# Altium schematic symbol library HW_ADHERENT_NFC_R1_L3.SchLib: 1628 symbols (part 11 of 31)
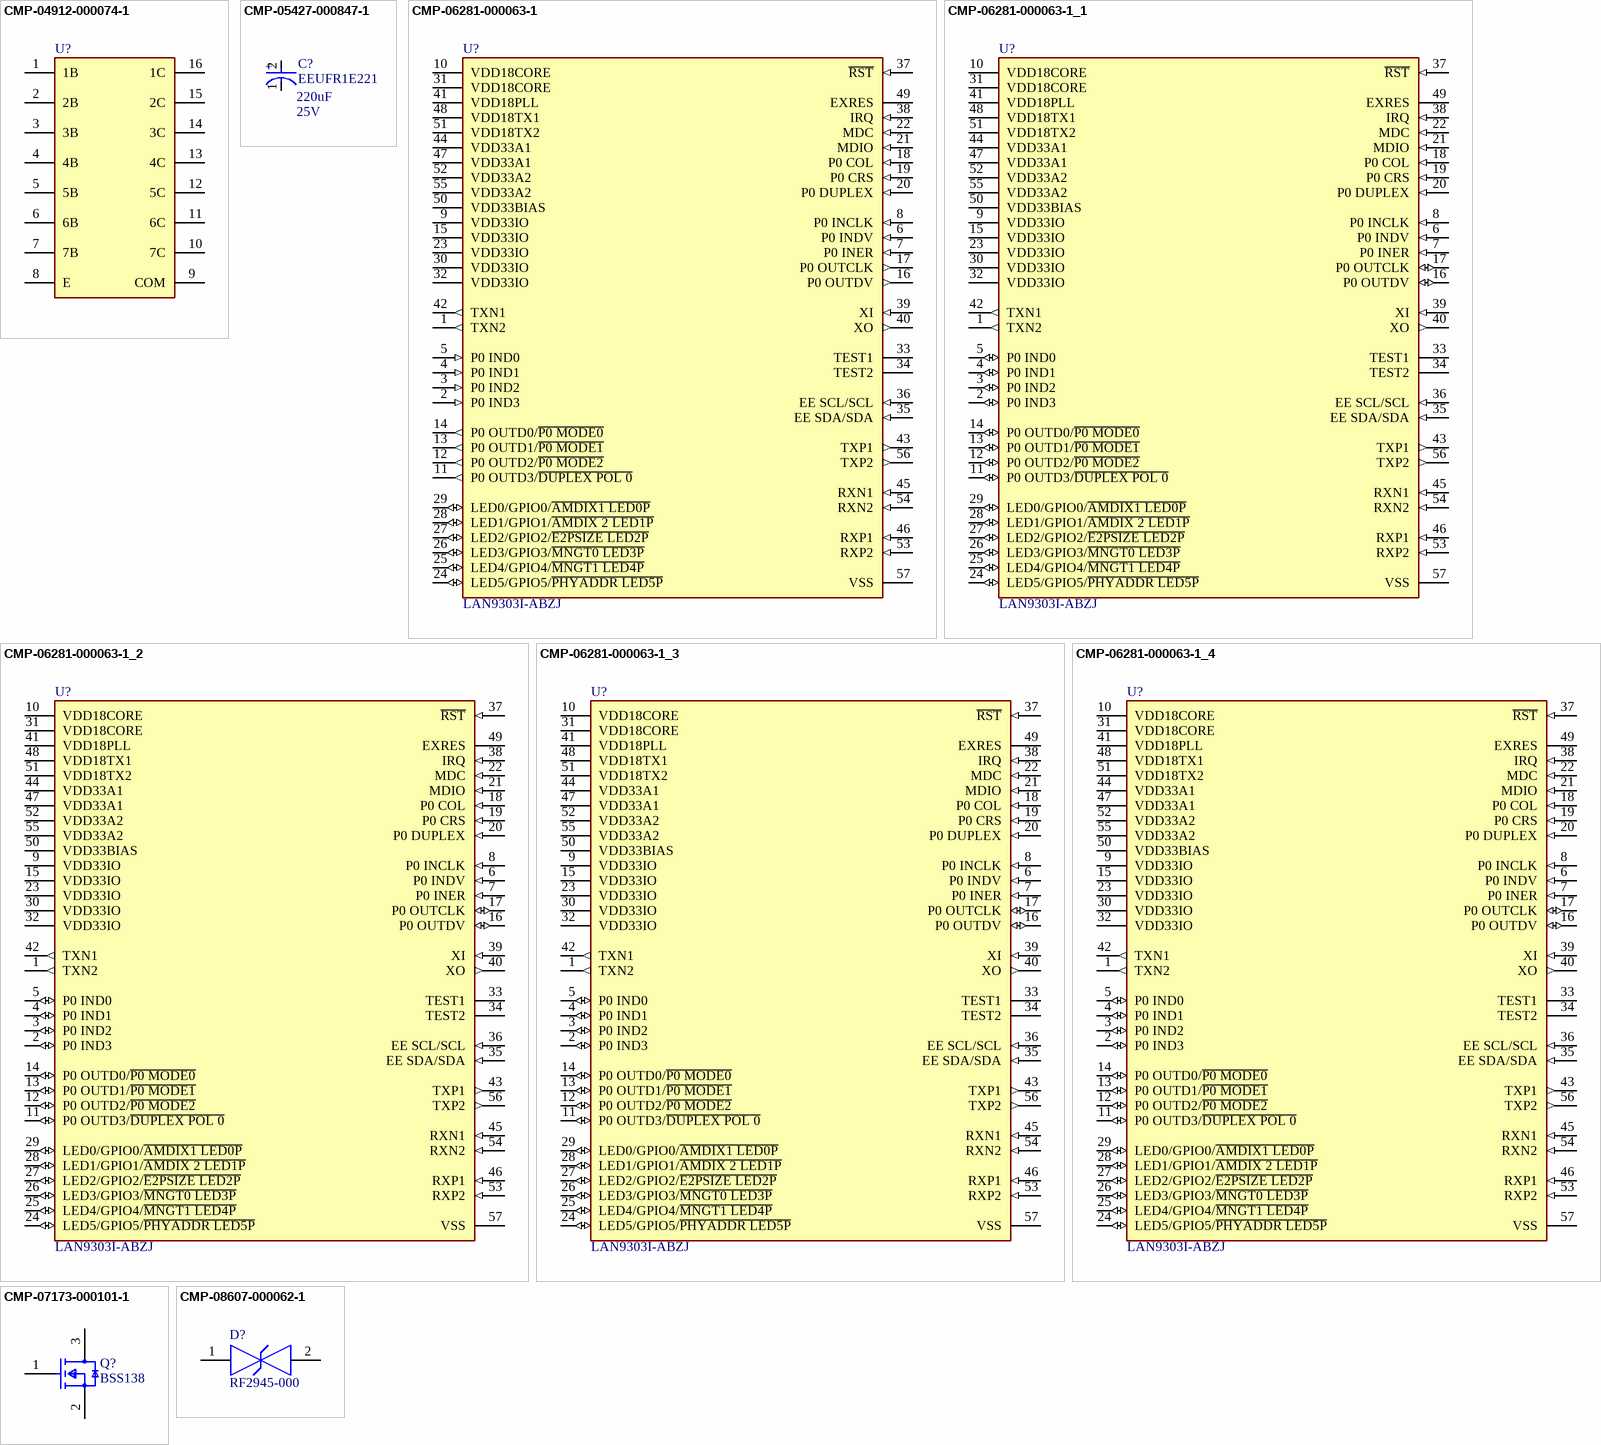
[diagram p60: symbols CMP-04912-000074-1 to CMP-08607-000062-1]

## CMP-06281-000063-1_3
designator U?, comment LAN9303I-ABZJ
IC ETHER SW 3PORT 16BIT 56QFN; Min Supply Voltage: 3V; Data Rate: 100Mbps; Max Supply Current: 190mA; Number of Ports: 3; Max Supply Voltage: 3.6V; Number of Transceivers: 1; Operating Supply Voltage: 3.3V; Interface: I2C; Min Operating Temperature: -40°C; Series: -; Mount: Surface Mount; Radiation Hardening: No; Package Quantity: 260; Lead Free: Lead Free; Number of Pins: 56; Packaging: Tray; Case/Package: QFN; Height: 0.9mm; RoHS Compliant: Yes; Operating Supply Current: 190mA; Width: 7.95mm; Max Operating Temperature: 85°C; Length: 7.95mm
footprint QFN50P800X800X100-57N
pins: 1 TXN2 (out), 2 P0 IND3 (io), 3 P0 IND2 (io), 4 P0 IND1 (io), 5 P0 IND0 (io), 6 P0 INDV (in), 7 P0 INER (in), 8 P0 INCLK (in), 9 VDD33IO (power), 10 VDD18CORE (power), 11 P0 OUTD3/~{DUPLEX POL 0} (io), 12 P0 OUTD2/~{P0 MODE2} (io), 13 P0 OUTD1/~{P0 MODE1} (io), 14 P0 OUTD0/~{P0 MODE0} (io), 15 VDD33IO (power), 16 P0 OUTDV (io), 17 P0 OUTCLK (io), 18 P0 COL (in), 19 P0 CRS (in), 20 P0 DUPLEX (in), 21 MDIO (in), 22 MDC (in), 23 VDD33IO (power), 24 LED5/GPIO5/~{PHYADDR LED5P} (io), 25 LED4/GPIO4/~{MNGT1 LED4P} (io), 26 LED3/GPIO3/~{MNGT0 LED3P} (io), 27 LED2/GPIO2/~{E2PSIZE LED2P} (io), 28 LED1/GPIO1/~{AMDIX 2 LED1P} (io), 29 LED0/GPIO0/~{AMDIX1 LED0P} (io), 30 VDD33IO (power), 31 VDD18CORE (power), 32 VDD33IO (power), 33 TEST1, 34 TEST2, 35 EE SDA/SDA (in), 36 EE SCL/SCL (in), 37 ~{RST} (in), 38 IRQ (in), 39 XI (in), 40 XO (out), 41 VDD18PLL (power), 42 TXN1 (out), 43 TXP1 (out), 44 VDD33A1 (power), 45 RXN1 (in), 46 RXP1 (in), 47 VDD33A1 (power), 48 VDD18TX1 (power), 49 EXRES (power), 50 VDD33BIAS (power), 51 VDD18TX2 (power), 52 VDD33A2 (power), 53 RXP2 (in), 54 RXN2 (in), 55 VDD33A2 (power), 56 TXP2 (out), 57 VSS (power)

## CMP-06281-000063-1_4
designator U?, comment LAN9303I-ABZJ
IC ETHER SW 3PORT 16BIT 56QFN; Min Supply Voltage: 3V; Data Rate: 100Mbps; Max Supply Current: 190mA; Number of Ports: 3; Max Supply Voltage: 3.6V; Number of Transceivers: 1; Operating Supply Voltage: 3.3V; Interface: I2C; Min Operating Temperature: -40°C; Series: -; Mount: Surface Mount; Radiation Hardening: No; Package Quantity: 260; Lead Free: Lead Free; Number of Pins: 56; Packaging: Tray; Case/Package: QFN; Height: 0.9mm; RoHS Compliant: Yes; Operating Supply Current: 190mA; Width: 7.95mm; Max Operating Temperature: 85°C; Length: 7.95mm
footprint QFN50P800X800X100-57N
pins: 1 TXN2 (out), 2 P0 IND3 (io), 3 P0 IND2 (io), 4 P0 IND1 (io), 5 P0 IND0 (io), 6 P0 INDV (in), 7 P0 INER (in), 8 P0 INCLK (in), 9 VDD33IO (power), 10 VDD18CORE (power), 11 P0 OUTD3/~{DUPLEX POL 0} (io), 12 P0 OUTD2/~{P0 MODE2} (io), 13 P0 OUTD1/~{P0 MODE1} (io), 14 P0 OUTD0/~{P0 MODE0} (io), 15 VDD33IO (power), 16 P0 OUTDV (io), 17 P0 OUTCLK (io), 18 P0 COL (in), 19 P0 CRS (in), 20 P0 DUPLEX (in), 21 MDIO (in), 22 MDC (in), 23 VDD33IO (power), 24 LED5/GPIO5/~{PHYADDR LED5P} (io), 25 LED4/GPIO4/~{MNGT1 LED4P} (io), 26 LED3/GPIO3/~{MNGT0 LED3P} (io), 27 LED2/GPIO2/~{E2PSIZE LED2P} (io), 28 LED1/GPIO1/~{AMDIX 2 LED1P} (io), 29 LED0/GPIO0/~{AMDIX1 LED0P} (io), 30 VDD33IO (power), 31 VDD18CORE (power), 32 VDD33IO (power), 33 TEST1, 34 TEST2, 35 EE SDA/SDA (in), 36 EE SCL/SCL (in), 37 ~{RST} (in), 38 IRQ (in), 39 XI (in), 40 XO (out), 41 VDD18PLL (power), 42 TXN1 (out), 43 TXP1 (out), 44 VDD33A1 (power), 45 RXN1 (in), 46 RXP1 (in), 47 VDD33A1 (power), 48 VDD18TX1 (power), 49 EXRES (power), 50 VDD33BIAS (power), 51 VDD18TX2 (power), 52 VDD33A2 (power), 53 RXP2 (in), 54 RXN2 (in), 55 VDD33A2 (power), 56 TXP2 (out), 57 VSS (power)

## CMP-07173-000101-1
designator Q?, comment BSS138
MOSFET N-CH 50V 220MA SOT-23; Manufacturer: ON Semiconductor / Fairchild; Rds On Max: 3.5R; Max Power Dissipation: 360mW; Input Capacitance: 27pF; Turn-Off Delay Time: 20ns; Turn-On Delay Time: 2.5ns; Gate to Source Voltage (Vgs): 20V; Number of Elements: 1; Threshold Voltage: 1.3V; Rise Time: 9ns; Element Configuration: Single; On-State Resistance: 6R; Supplier 1: Digi-Key; Supplier Part Number 1: BSS138CT-ND; Manufacturer Part Number: BSS138; RoHS: Yes; Category: MOSFETs; Stock 1: 1079620; Pricing 1: 1=0,28000, 10=0,22800, 25=0,19120, 100=0,12100, 500=0,07962, 1000=0,05414 (USD); Mount: Surface Mount; Case/Package: SOT-23; Number of Pins: 3; Contact Plating: Tin,Matte; Weight: 0.03g; Min Operating Temperature: -55°C; Max Operating Temperature: 150°C; Packaging: Tape and Reel; Drain to Source Voltage (Vdss): 50V; Continuous Drain Current (ID): 220mA; Power Dissipation: 360mW; Package Quantity: 1; Drain to Source Breakdown Voltage: 50V; Drain to Source Resistance: 3.5R; Nominal Vgs: 1.3V; Fall Time: 9ns; Voltage Rating (DC): 50V; Current Rating: 220mA; Dual Supply Voltage: 50V; Termination: SMD/SMT; Length: 2.92mm; Width: 1.3mm; Height: 0.93mm; Radiation Hardening: No; REACH SVHC: No SVHC; Lead Free: Lead Free; ComponentLink1URL: https://datasheet.ciiva.com/1190/193736-1190130.pdf?src-supplier=Element14; ComponentLink1Description: https://datasheet.ciiva.com/1190/193736-1190130.pdf?src-supplier=Element14; ComponentLink2URL: https://datasheet.ciiva.com/931/bss138-931776.pdf?src-supplier=Digi-Key; ComponentLink2Description: https://datasheet.ciiva.com/931/bss138-931776.pdf?src-supplier=Digi-Key; ComponentLink3URL: https://datasheet.ciiva.com/22655/193736-22655240.pdf?src-supplier=Element14; ComponentLink3Description: https://datasheet.ciiva.com/22655/193736-22655240.pdf?src-supplier=Element14; ComponentLink4URL: https://datasheet.ciiva.com/1254/193736-1254983.pdf?src-supplier=Newark; ComponentLink4Description: https://datasheet.ciiva.com/1254/193736-1254983.pdf?src-supplier=Newark; ComponentLink5URL: https://datasheet.ciiva.com/27050/784896-27050043.pdf?src-supplier=Jameco; ComponentLink5Description: https://datasheet.ciiva.com/27050/784896-27050043.pdf?src-supplier=Jameco; ComponentLink6URL: https://datasheet.ciiva.com/1190/193736-1190131.pdf?src-supplier=Element14; ComponentLink6Description: https://datasheet.ciiva.com/1190/193736-1190131.pdf?src-supplier=Element14; ComponentLink7URL: https://datasheet.ciiva.com/3304/bss138-3304424.pdf?src-supplier=Avnet; ComponentLink7Description: https://datasheet.ciiva.com/3304/bss138-3304424.pdf?src-supplier=Avnet; ComponentLink8URL: https://datasheet.ciiva.com/16834/bss138-16834843.pdf?src-supplier=Future+Electronics; ComponentLink8Description: https://datasheet.ciiva.com/16834/bss138-16834843.pdf?src-supplier=Future+Electronics; ComponentLink9URL: https://datasheet.ciiva.com/26229/bss138-26229007.pdf?src-supplier=Avnet+Europe; ComponentLink9Description: https://datasheet.ciiva.com/26229/bss138-26229007.pdf?src-supplier=Avnet+Europe
footprint FP-318-08-IPC_B
footprint FP-318-08-MFG
footprint FP-318-08-IPC_A
footprint FP-318-08-IPC_C
pins: 1 G, 2 S, 3 D

## CMP-08607-000062-1
designator D?, comment RF2945-000
TVS DIODE 7V 10V 0402; Manufacturer: Littelfuse; Value: 0.1pF; Breakdown Voltage: 9.8V; Number Of Channels: 1; Peak Pulse Current: 2A; Direction: Bidirectional; Automotive Grade: Grade 1; Standoff Height: 0mm; Octopart: https://octopart.com/rf2945-000-littelfuse-56516902; Device Class L3: unset; ComponentLink2Description: Datasheet; Lead Free: Yes; Temperature Range Low: -55°C; Clamping Voltage: 10V; Digikey Description: TVS DIODE 7V 10V 0402; Category: Diode; Temperature: -55°C to +125°C; Device Class L1: Circuit Protection; Capacitance: 0.1pF; RoHS: TRUE; Device Class L2: TVS Diodes; Package: SESD0402; Reverse Standoff Voltage: 7V; Automotive: Yes; Height: 0.43mm; Manufacturer Part Number: RF2945-000; Temperature Range High: +125°C; ComponentLink2URL: https://www.littelfuse.com/~/media/electronics/datasheets/tvs_diode_arrays/littelfuse_tvs_diode_array_sesd_ultra_low_capacitance_discrete_tvs_datasheet.pdf.pdf
footprint FP-SESD0402-MFG
pins: 1, 2

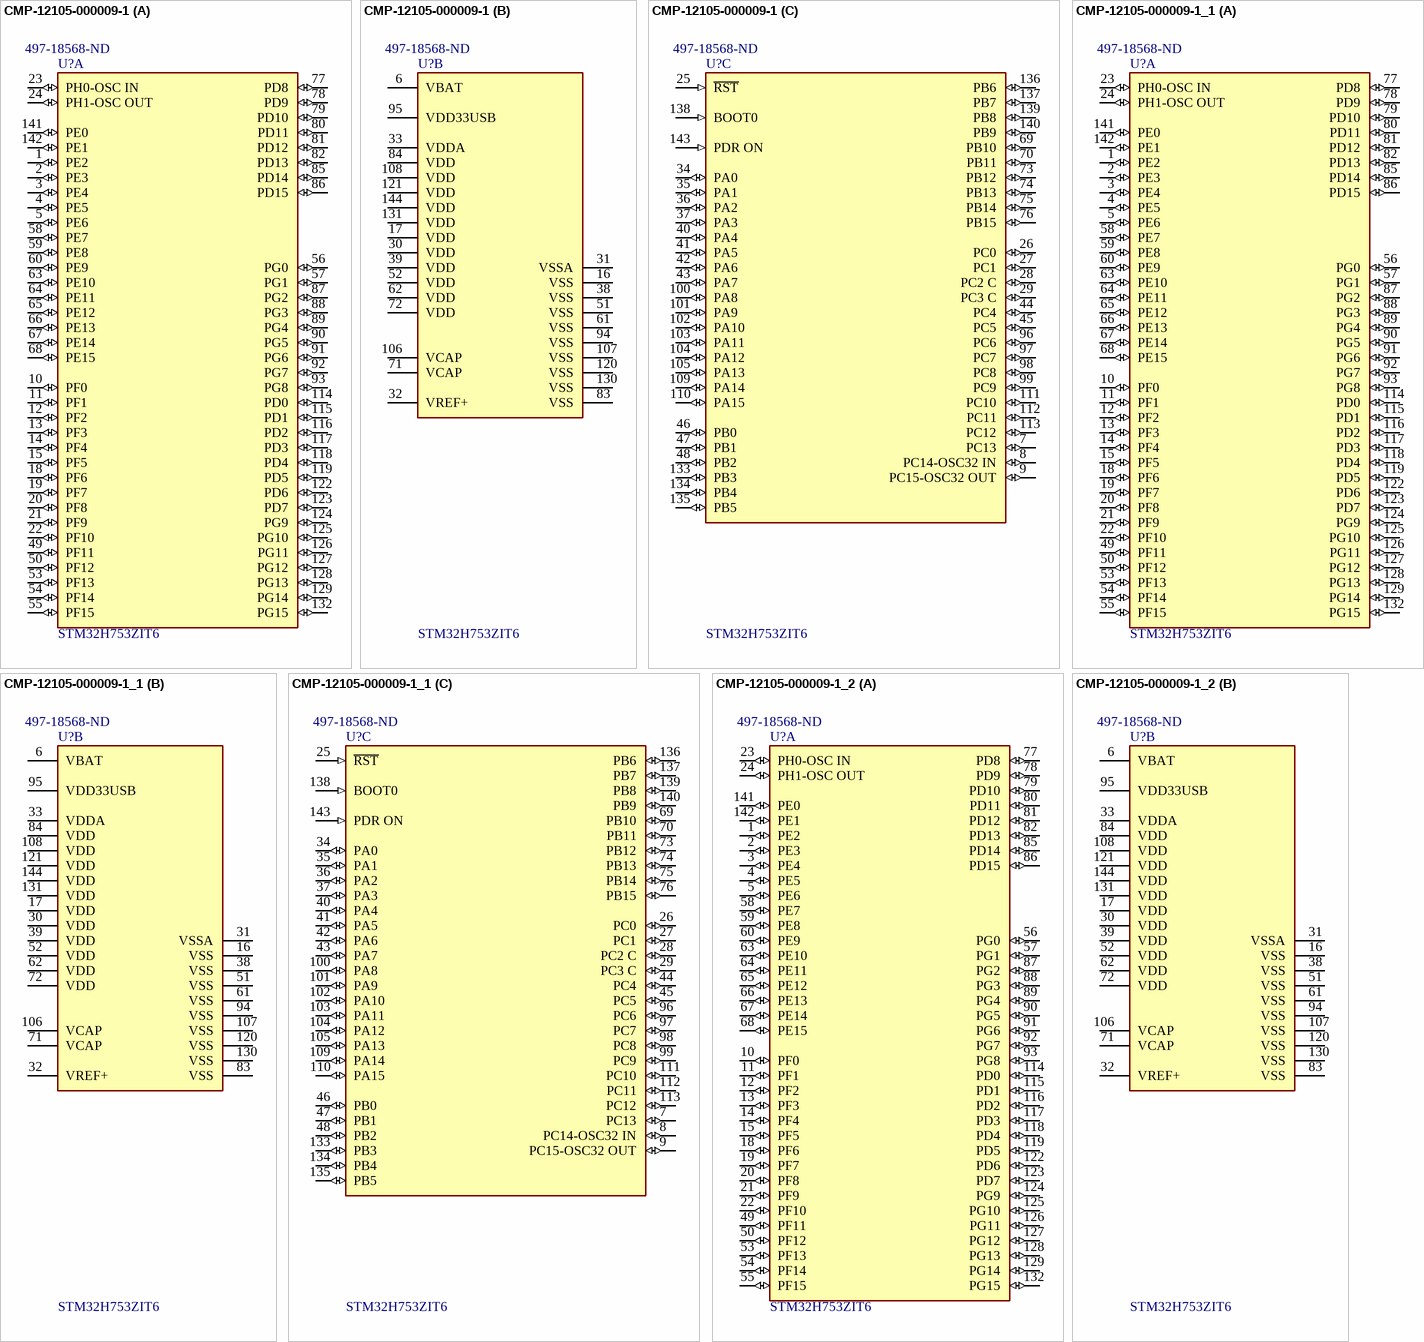
[diagram p15: symbols CMP-12105-000009-1 to CMP-12105-000009-1_2]

## CMP-12105-000009-1
designator U?, comment STM32H753ZIT6  Supplier Part Number 1: 497-18568-ND
LQFP 144 20X20X1.4 2; Manufacturer: STMicroelectronics; ComponentLink2URL: https://www.st.com/resource/en/datasheet/stm32h753zi.pdf; ComponentLink2Description: Datasheet; ComponentLink1URL: http://www.farnell.com/datasheets/2602777.pdf?src-supplier=Farnell; ComponentLink1Description: http://www.farnell.com/datasheets/2602777.pdf?src-supplier=Farnell; ComponentLink3URL: http://www.farnell.com/datasheets/2602777.pdf?src-supplier=Newark; ComponentLink3Description: http://www.farnell.com/datasheets/2602777.pdf?src-supplier=Newark; ComponentLink4URL: http://www.farnell.com/datasheets/2602777.pdf?src-supplier=Element14; ComponentLink4Description: http://www.farnell.com/datasheets/2602777.pdf?src-supplier=Element14; ComponentLink5URL: http://www.st.com/content/ccc/resource/technical/document/datasheet/group3/01/21/00/39/12/c9/4c/f1/DM00388325/files/DM00388325.pdf/jcr:content/translations/en.DM00388325.pdf?src-supplier=Digi-Key; ComponentLink5Description: http://www.st.com/content/ccc/resource/technical/document/datasheet/group3/01/21/00/39/12/c9/4c/f1/DM00388325/files/DM00388325.pdf/jcr:content/translations/en.DM00388325.pdf?src-supplier=Digi-Key; Supplier 1: Digi-Key; Manufacturer Part Number: STM32H753ZIT6; RoHS: Yes; Category: Microcontrollers; Pricing 1: 1=18.38000, 10=16.88900, 25=16.18840, 120=14.58417 (USD); RoHS Compliant: Yes
footprint FP-LQFP144-1A-MFG
footprint FP-LQFP144-1A-IPC_C
footprint FP-LQFP144-1A-IPC_B
footprint FP-LQFP144-1A-IPC_A
part A pins: 1 PE2 (io), 2 PE3 (io), 3 PE4 (io), 4 PE5 (io), 5 PE6 (io), 10 PF0 (io), 11 PF1 (io), 12 PF2 (io), 13 PF3 (io), 14 PF4 (io), 15 PF5 (io), 18 PF6 (io), 19 PF7 (io), 20 PF8 (io), 21 PF9 (io), 22 PF10 (io), 23 PH0-OSC IN (io), 24 PH1-OSC OUT (io), 49 PF11 (io), 50 PF12 (io), 53 PF13 (io), 54 PF14 (io), 55 PF15 (io), 56 PG0 (io), 57 PG1 (io), 58 PE7 (io), 59 PE8 (io), 60 PE9 (io), 63 PE10 (io), 64 PE11 (io), 65 PE12 (io), 66 PE13 (io), 67 PE14 (io), 68 PE15 (io), 77 PD8 (io), 78 PD9 (io), 79 PD10 (io), 80 PD11 (io), 81 PD12 (io), 82 PD13 (io), 85 PD14 (io), 86 PD15 (io), 87 PG2 (io), 88 PG3 (io), 89 PG4 (io), 90 PG5 (io), 91 PG6 (io), 92 PG7 (io), 93 PG8 (io), 114 PD0 (io), 115 PD1 (io), 116 PD2 (io), 117 PD3 (io), 118 PD4 (io), 119 PD5 (io), 122 PD6 (io), 123 PD7 (io), 124 PG9 (io), 125 PG10 (io), 126 PG11 (io), 127 PG12 (io), 128 PG13 (io), 129 PG14 (io), 132 PG15 (io), 141 PE0 (io), 142 PE1 (io)
part B pins: 6 VBAT (power), 16 VSS (power), 17 VDD (power), 30 VDD (power), 31 VSSA (power), 32 VREF+ (power), 33 VDDA (power), 38 VSS (power), 39 VDD (power), 51 VSS (power), 52 VDD (power), 61 VSS (power), 62 VDD (power), 71 VCAP (power), 72 VDD (power), 83 VSS (power), 84 VDD (power), 94 VSS (power), 95 VDD33USB (power), 106 VCAP (power), 107 VSS (power), 108 VDD (power), 120 VSS (power), 121 VDD (power), 130 VSS (power), 131 VDD (power), 144 VDD (power)
part C pins: 7 PC13 (io), 8 PC14-OSC32 IN (io), 9 PC15-OSC32 OUT (io), 25 ~{RST} (in), 26 PC0 (io), 27 PC1 (io), 28 PC2 C (io), 29 PC3 C (io), 34 PA0 (io), 35 PA1 (io), 36 PA2 (io), 37 PA3 (io), 40 PA4 (io), 41 PA5 (io), 42 PA6 (io), 43 PA7 (io), 44 PC4 (io), 45 PC5 (io), 46 PB0 (io), 47 PB1 (io), 48 PB2 (io), 69 PB10 (io), 70 PB11 (io), 73 PB12 (io), 74 PB13 (io), 75 PB14 (io), 76 PB15 (io), 96 PC6 (io), 97 PC7 (io), 98 PC8 (io), 99 PC9 (io), 100 PA8 (io), 101 PA9 (io), 102 PA10 (io), 103 PA11 (io), 104 PA12 (io), 105 PA13 (io), 109 PA14 (io), 110 PA15 (io), 111 PC10 (io), 112 PC11 (io), 113 PC12 (io), 133 PB3 (io), 134 PB4 (io), 135 PB5 (io), 136 PB6 (io), 137 PB7 (io), 138 BOOT0 (in), 139 PB8 (io), 140 PB9 (io), 143 PDR ON (in)

## CMP-12105-000009-1_1
designator U?, comment STM32H753ZIT6  Supplier Part Number 1: 497-18568-ND
LQFP 144 20X20X1.4 2; Manufacturer: STMicroelectronics; ComponentLink2URL: https://www.st.com/resource/en/datasheet/stm32h753zi.pdf; ComponentLink2Description: Datasheet; ComponentLink1URL: http://www.farnell.com/datasheets/2602777.pdf?src-supplier=Farnell; ComponentLink1Description: http://www.farnell.com/datasheets/2602777.pdf?src-supplier=Farnell; ComponentLink3URL: http://www.farnell.com/datasheets/2602777.pdf?src-supplier=Newark; ComponentLink3Description: http://www.farnell.com/datasheets/2602777.pdf?src-supplier=Newark; ComponentLink4URL: http://www.farnell.com/datasheets/2602777.pdf?src-supplier=Element14; ComponentLink4Description: http://www.farnell.com/datasheets/2602777.pdf?src-supplier=Element14; ComponentLink5URL: http://www.st.com/content/ccc/resource/technical/document/datasheet/group3/01/21/00/39/12/c9/4c/f1/DM00388325/files/DM00388325.pdf/jcr:content/translations/en.DM00388325.pdf?src-supplier=Digi-Key; ComponentLink5Description: http://www.st.com/content/ccc/resource/technical/document/datasheet/group3/01/21/00/39/12/c9/4c/f1/DM00388325/files/DM00388325.pdf/jcr:content/translations/en.DM00388325.pdf?src-supplier=Digi-Key; Supplier 1: Digi-Key; Manufacturer Part Number: STM32H753ZIT6; RoHS: Yes; Category: Microcontrollers; Pricing 1: 1=18.38000, 10=16.88900, 25=16.18840, 120=14.58417 (USD); RoHS Compliant: Yes
footprint FP-LQFP144-1A-MFG
footprint FP-LQFP144-1A-IPC_C
footprint FP-LQFP144-1A-IPC_B
footprint FP-LQFP144-1A-IPC_A
part A pins: 1 PE2 (io), 2 PE3 (io), 3 PE4 (io), 4 PE5 (io), 5 PE6 (io), 10 PF0 (io), 11 PF1 (io), 12 PF2 (io), 13 PF3 (io), 14 PF4 (io), 15 PF5 (io), 18 PF6 (io), 19 PF7 (io), 20 PF8 (io), 21 PF9 (io), 22 PF10 (io), 23 PH0-OSC IN (io), 24 PH1-OSC OUT (io), 49 PF11 (io), 50 PF12 (io), 53 PF13 (io), 54 PF14 (io), 55 PF15 (io), 56 PG0 (io), 57 PG1 (io), 58 PE7 (io), 59 PE8 (io), 60 PE9 (io), 63 PE10 (io), 64 PE11 (io), 65 PE12 (io), 66 PE13 (io), 67 PE14 (io), 68 PE15 (io), 77 PD8 (io), 78 PD9 (io), 79 PD10 (io), 80 PD11 (io), 81 PD12 (io), 82 PD13 (io), 85 PD14 (io), 86 PD15 (io), 87 PG2 (io), 88 PG3 (io), 89 PG4 (io), 90 PG5 (io), 91 PG6 (io), 92 PG7 (io), 93 PG8 (io), 114 PD0 (io), 115 PD1 (io), 116 PD2 (io), 117 PD3 (io), 118 PD4 (io), 119 PD5 (io), 122 PD6 (io), 123 PD7 (io), 124 PG9 (io), 125 PG10 (io), 126 PG11 (io), 127 PG12 (io), 128 PG13 (io), 129 PG14 (io), 132 PG15 (io), 141 PE0 (io), 142 PE1 (io)
part B pins: 6 VBAT (power), 16 VSS (power), 17 VDD (power), 30 VDD (power), 31 VSSA (power), 32 VREF+ (power), 33 VDDA (power), 38 VSS (power), 39 VDD (power), 51 VSS (power), 52 VDD (power), 61 VSS (power), 62 VDD (power), 71 VCAP (power), 72 VDD (power), 83 VSS (power), 84 VDD (power), 94 VSS (power), 95 VDD33USB (power), 106 VCAP (power), 107 VSS (power), 108 VDD (power), 120 VSS (power), 121 VDD (power), 130 VSS (power), 131 VDD (power), 144 VDD (power)
part C pins: 7 PC13 (io), 8 PC14-OSC32 IN (io), 9 PC15-OSC32 OUT (io), 25 ~{RST} (in), 26 PC0 (io), 27 PC1 (io), 28 PC2 C (io), 29 PC3 C (io), 34 PA0 (io), 35 PA1 (io), 36 PA2 (io), 37 PA3 (io), 40 PA4 (io), 41 PA5 (io), 42 PA6 (io), 43 PA7 (io), 44 PC4 (io), 45 PC5 (io), 46 PB0 (io), 47 PB1 (io), 48 PB2 (io), 69 PB10 (io), 70 PB11 (io), 73 PB12 (io), 74 PB13 (io), 75 PB14 (io), 76 PB15 (io), 96 PC6 (io), 97 PC7 (io), 98 PC8 (io), 99 PC9 (io), 100 PA8 (io), 101 PA9 (io), 102 PA10 (io), 103 PA11 (io), 104 PA12 (io), 105 PA13 (io), 109 PA14 (io), 110 PA15 (io), 111 PC10 (io), 112 PC11 (io), 113 PC12 (io), 133 PB3 (io), 134 PB4 (io), 135 PB5 (io), 136 PB6 (io), 137 PB7 (io), 138 BOOT0 (in), 139 PB8 (io), 140 PB9 (io), 143 PDR ON (in)

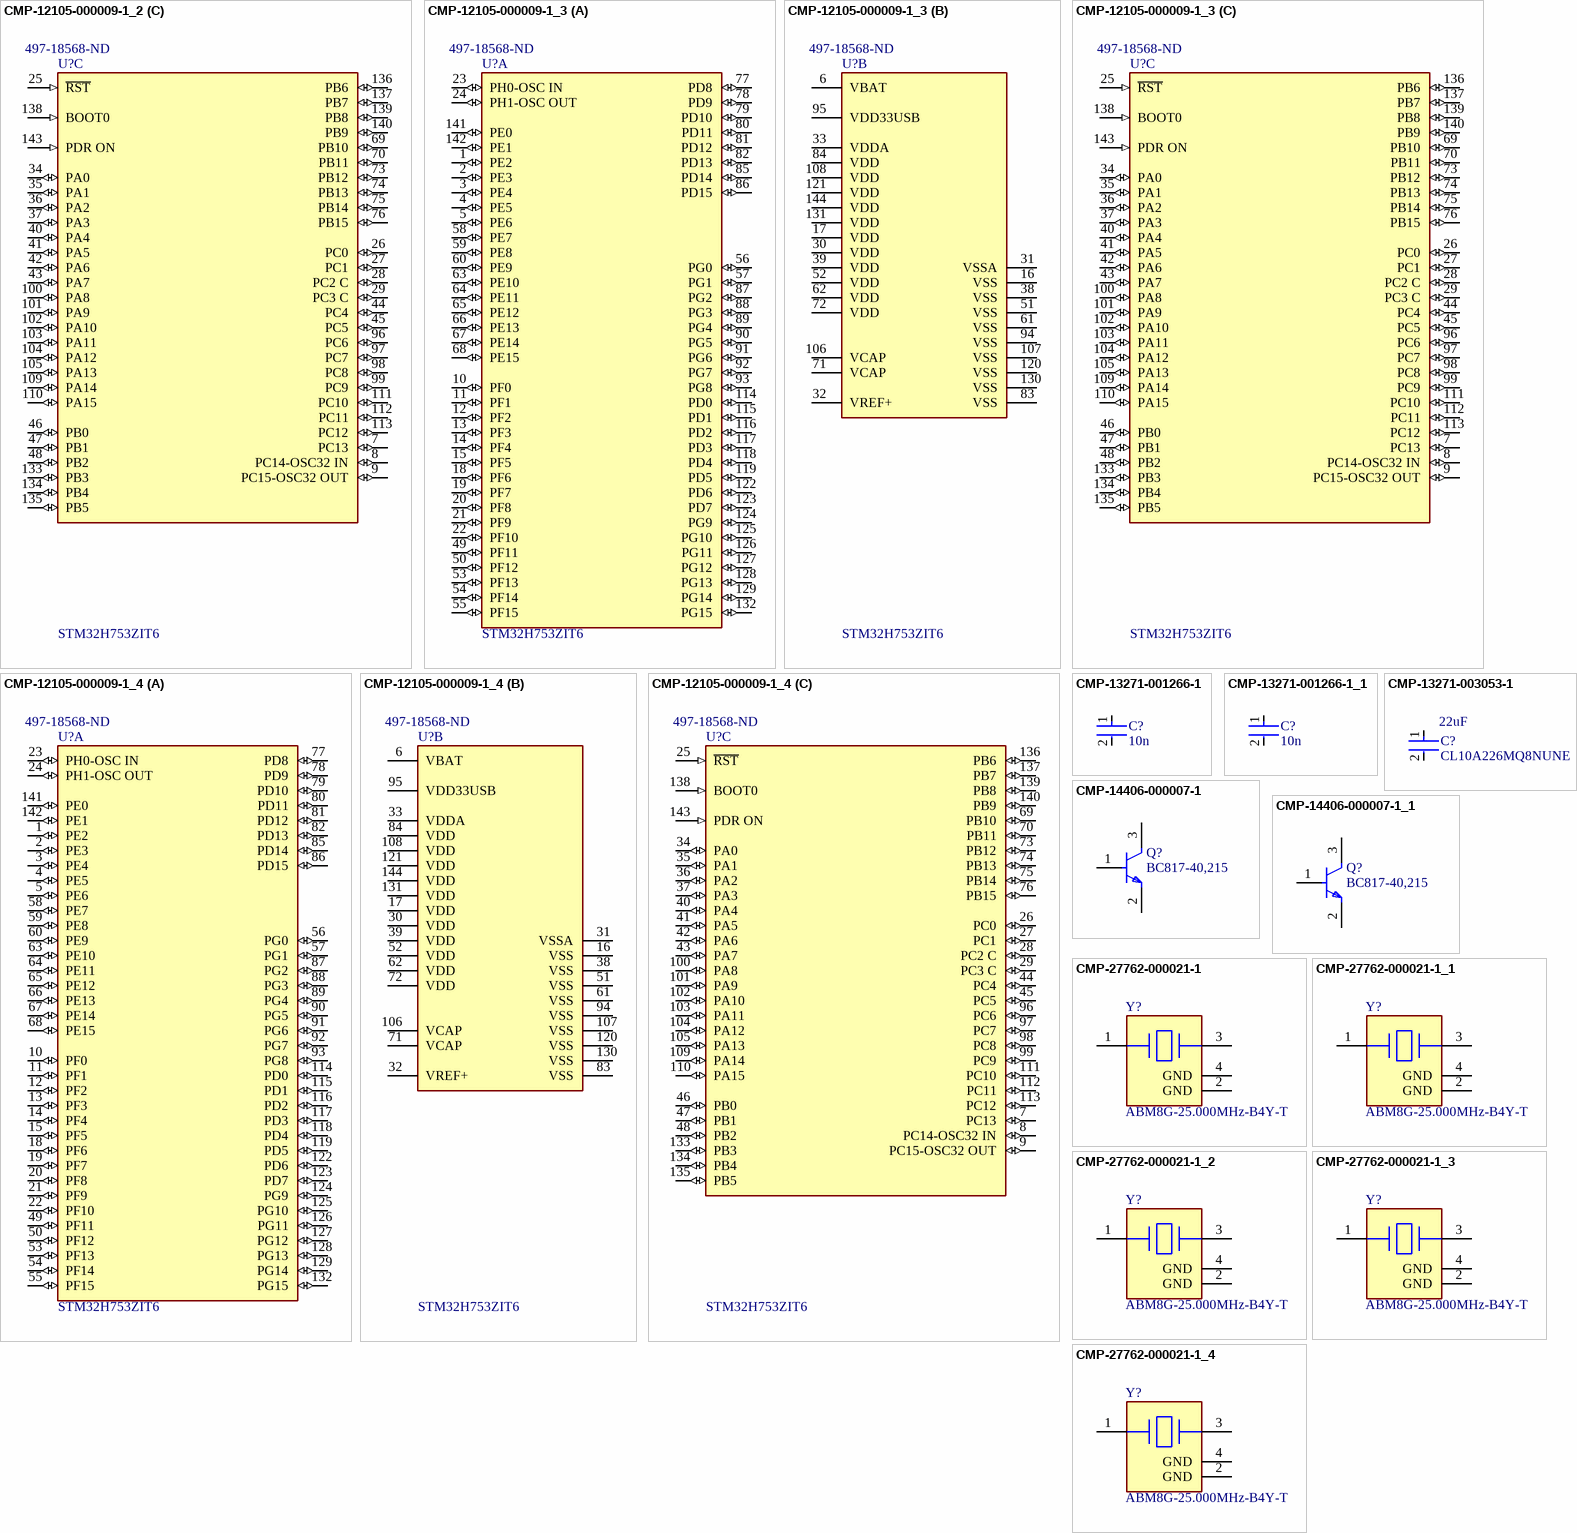
[diagram p16: symbols CMP-12105-000009-1_2 to CMP-27762-000021-1_4]

## CMP-12105-000009-1_2
designator U?, comment STM32H753ZIT6  Supplier Part Number 1: 497-18568-ND
LQFP 144 20X20X1.4 2; Manufacturer: STMicroelectronics; ComponentLink2URL: https://www.st.com/resource/en/datasheet/stm32h753zi.pdf; ComponentLink2Description: Datasheet; ComponentLink1URL: http://www.farnell.com/datasheets/2602777.pdf?src-supplier=Farnell; ComponentLink1Description: http://www.farnell.com/datasheets/2602777.pdf?src-supplier=Farnell; ComponentLink3URL: http://www.farnell.com/datasheets/2602777.pdf?src-supplier=Newark; ComponentLink3Description: http://www.farnell.com/datasheets/2602777.pdf?src-supplier=Newark; ComponentLink4URL: http://www.farnell.com/datasheets/2602777.pdf?src-supplier=Element14; ComponentLink4Description: http://www.farnell.com/datasheets/2602777.pdf?src-supplier=Element14; ComponentLink5URL: http://www.st.com/content/ccc/resource/technical/document/datasheet/group3/01/21/00/39/12/c9/4c/f1/DM00388325/files/DM00388325.pdf/jcr:content/translations/en.DM00388325.pdf?src-supplier=Digi-Key; ComponentLink5Description: http://www.st.com/content/ccc/resource/technical/document/datasheet/group3/01/21/00/39/12/c9/4c/f1/DM00388325/files/DM00388325.pdf/jcr:content/translations/en.DM00388325.pdf?src-supplier=Digi-Key; Supplier 1: Digi-Key; Manufacturer Part Number: STM32H753ZIT6; RoHS: Yes; Category: Microcontrollers; Pricing 1: 1=18.38000, 10=16.88900, 25=16.18840, 120=14.58417 (USD); RoHS Compliant: Yes
footprint FP-LQFP144-1A-MFG
footprint FP-LQFP144-1A-IPC_C
footprint FP-LQFP144-1A-IPC_B
footprint FP-LQFP144-1A-IPC_A
part A pins: 1 PE2 (io), 2 PE3 (io), 3 PE4 (io), 4 PE5 (io), 5 PE6 (io), 10 PF0 (io), 11 PF1 (io), 12 PF2 (io), 13 PF3 (io), 14 PF4 (io), 15 PF5 (io), 18 PF6 (io), 19 PF7 (io), 20 PF8 (io), 21 PF9 (io), 22 PF10 (io), 23 PH0-OSC IN (io), 24 PH1-OSC OUT (io), 49 PF11 (io), 50 PF12 (io), 53 PF13 (io), 54 PF14 (io), 55 PF15 (io), 56 PG0 (io), 57 PG1 (io), 58 PE7 (io), 59 PE8 (io), 60 PE9 (io), 63 PE10 (io), 64 PE11 (io), 65 PE12 (io), 66 PE13 (io), 67 PE14 (io), 68 PE15 (io), 77 PD8 (io), 78 PD9 (io), 79 PD10 (io), 80 PD11 (io), 81 PD12 (io), 82 PD13 (io), 85 PD14 (io), 86 PD15 (io), 87 PG2 (io), 88 PG3 (io), 89 PG4 (io), 90 PG5 (io), 91 PG6 (io), 92 PG7 (io), 93 PG8 (io), 114 PD0 (io), 115 PD1 (io), 116 PD2 (io), 117 PD3 (io), 118 PD4 (io), 119 PD5 (io), 122 PD6 (io), 123 PD7 (io), 124 PG9 (io), 125 PG10 (io), 126 PG11 (io), 127 PG12 (io), 128 PG13 (io), 129 PG14 (io), 132 PG15 (io), 141 PE0 (io), 142 PE1 (io)
part B pins: 6 VBAT (power), 16 VSS (power), 17 VDD (power), 30 VDD (power), 31 VSSA (power), 32 VREF+ (power), 33 VDDA (power), 38 VSS (power), 39 VDD (power), 51 VSS (power), 52 VDD (power), 61 VSS (power), 62 VDD (power), 71 VCAP (power), 72 VDD (power), 83 VSS (power), 84 VDD (power), 94 VSS (power), 95 VDD33USB (power), 106 VCAP (power), 107 VSS (power), 108 VDD (power), 120 VSS (power), 121 VDD (power), 130 VSS (power), 131 VDD (power), 144 VDD (power)
part C pins: 7 PC13 (io), 8 PC14-OSC32 IN (io), 9 PC15-OSC32 OUT (io), 25 ~{RST} (in), 26 PC0 (io), 27 PC1 (io), 28 PC2 C (io), 29 PC3 C (io), 34 PA0 (io), 35 PA1 (io), 36 PA2 (io), 37 PA3 (io), 40 PA4 (io), 41 PA5 (io), 42 PA6 (io), 43 PA7 (io), 44 PC4 (io), 45 PC5 (io), 46 PB0 (io), 47 PB1 (io), 48 PB2 (io), 69 PB10 (io), 70 PB11 (io), 73 PB12 (io), 74 PB13 (io), 75 PB14 (io), 76 PB15 (io), 96 PC6 (io), 97 PC7 (io), 98 PC8 (io), 99 PC9 (io), 100 PA8 (io), 101 PA9 (io), 102 PA10 (io), 103 PA11 (io), 104 PA12 (io), 105 PA13 (io), 109 PA14 (io), 110 PA15 (io), 111 PC10 (io), 112 PC11 (io), 113 PC12 (io), 133 PB3 (io), 134 PB4 (io), 135 PB5 (io), 136 PB6 (io), 137 PB7 (io), 138 BOOT0 (in), 139 PB8 (io), 140 PB9 (io), 143 PDR ON (in)

## CMP-12105-000009-1_3
designator U?, comment STM32H753ZIT6  Supplier Part Number 1: 497-18568-ND
LQFP 144 20X20X1.4 2; Manufacturer: STMicroelectronics; ComponentLink2URL: https://www.st.com/resource/en/datasheet/stm32h753zi.pdf; ComponentLink2Description: Datasheet; ComponentLink1URL: http://www.farnell.com/datasheets/2602777.pdf?src-supplier=Farnell; ComponentLink1Description: http://www.farnell.com/datasheets/2602777.pdf?src-supplier=Farnell; ComponentLink3URL: http://www.farnell.com/datasheets/2602777.pdf?src-supplier=Newark; ComponentLink3Description: http://www.farnell.com/datasheets/2602777.pdf?src-supplier=Newark; ComponentLink4URL: http://www.farnell.com/datasheets/2602777.pdf?src-supplier=Element14; ComponentLink4Description: http://www.farnell.com/datasheets/2602777.pdf?src-supplier=Element14; ComponentLink5URL: http://www.st.com/content/ccc/resource/technical/document/datasheet/group3/01/21/00/39/12/c9/4c/f1/DM00388325/files/DM00388325.pdf/jcr:content/translations/en.DM00388325.pdf?src-supplier=Digi-Key; ComponentLink5Description: http://www.st.com/content/ccc/resource/technical/document/datasheet/group3/01/21/00/39/12/c9/4c/f1/DM00388325/files/DM00388325.pdf/jcr:content/translations/en.DM00388325.pdf?src-supplier=Digi-Key; Supplier 1: Digi-Key; Manufacturer Part Number: STM32H753ZIT6; RoHS: Yes; Category: Microcontrollers; Pricing 1: 1=18.38000, 10=16.88900, 25=16.18840, 120=14.58417 (USD); RoHS Compliant: Yes
footprint FP-LQFP144-1A-MFG
footprint FP-LQFP144-1A-IPC_C
footprint FP-LQFP144-1A-IPC_B
footprint FP-LQFP144-1A-IPC_A
part A pins: 1 PE2 (io), 2 PE3 (io), 3 PE4 (io), 4 PE5 (io), 5 PE6 (io), 10 PF0 (io), 11 PF1 (io), 12 PF2 (io), 13 PF3 (io), 14 PF4 (io), 15 PF5 (io), 18 PF6 (io), 19 PF7 (io), 20 PF8 (io), 21 PF9 (io), 22 PF10 (io), 23 PH0-OSC IN (io), 24 PH1-OSC OUT (io), 49 PF11 (io), 50 PF12 (io), 53 PF13 (io), 54 PF14 (io), 55 PF15 (io), 56 PG0 (io), 57 PG1 (io), 58 PE7 (io), 59 PE8 (io), 60 PE9 (io), 63 PE10 (io), 64 PE11 (io), 65 PE12 (io), 66 PE13 (io), 67 PE14 (io), 68 PE15 (io), 77 PD8 (io), 78 PD9 (io), 79 PD10 (io), 80 PD11 (io), 81 PD12 (io), 82 PD13 (io), 85 PD14 (io), 86 PD15 (io), 87 PG2 (io), 88 PG3 (io), 89 PG4 (io), 90 PG5 (io), 91 PG6 (io), 92 PG7 (io), 93 PG8 (io), 114 PD0 (io), 115 PD1 (io), 116 PD2 (io), 117 PD3 (io), 118 PD4 (io), 119 PD5 (io), 122 PD6 (io), 123 PD7 (io), 124 PG9 (io), 125 PG10 (io), 126 PG11 (io), 127 PG12 (io), 128 PG13 (io), 129 PG14 (io), 132 PG15 (io), 141 PE0 (io), 142 PE1 (io)
part B pins: 6 VBAT (power), 16 VSS (power), 17 VDD (power), 30 VDD (power), 31 VSSA (power), 32 VREF+ (power), 33 VDDA (power), 38 VSS (power), 39 VDD (power), 51 VSS (power), 52 VDD (power), 61 VSS (power), 62 VDD (power), 71 VCAP (power), 72 VDD (power), 83 VSS (power), 84 VDD (power), 94 VSS (power), 95 VDD33USB (power), 106 VCAP (power), 107 VSS (power), 108 VDD (power), 120 VSS (power), 121 VDD (power), 130 VSS (power), 131 VDD (power), 144 VDD (power)
part C pins: 7 PC13 (io), 8 PC14-OSC32 IN (io), 9 PC15-OSC32 OUT (io), 25 ~{RST} (in), 26 PC0 (io), 27 PC1 (io), 28 PC2 C (io), 29 PC3 C (io), 34 PA0 (io), 35 PA1 (io), 36 PA2 (io), 37 PA3 (io), 40 PA4 (io), 41 PA5 (io), 42 PA6 (io), 43 PA7 (io), 44 PC4 (io), 45 PC5 (io), 46 PB0 (io), 47 PB1 (io), 48 PB2 (io), 69 PB10 (io), 70 PB11 (io), 73 PB12 (io), 74 PB13 (io), 75 PB14 (io), 76 PB15 (io), 96 PC6 (io), 97 PC7 (io), 98 PC8 (io), 99 PC9 (io), 100 PA8 (io), 101 PA9 (io), 102 PA10 (io), 103 PA11 (io), 104 PA12 (io), 105 PA13 (io), 109 PA14 (io), 110 PA15 (io), 111 PC10 (io), 112 PC11 (io), 113 PC12 (io), 133 PB3 (io), 134 PB4 (io), 135 PB5 (io), 136 PB6 (io), 137 PB7 (io), 138 BOOT0 (in), 139 PB8 (io), 140 PB9 (io), 143 PDR ON (in)

## CMP-12105-000009-1_4
designator U?, comment STM32H753ZIT6  Supplier Part Number 1: 497-18568-ND
LQFP 144 20X20X1.4 2; Manufacturer: STMicroelectronics; ComponentLink2URL: https://www.st.com/resource/en/datasheet/stm32h753zi.pdf; ComponentLink2Description: Datasheet; ComponentLink1URL: http://www.farnell.com/datasheets/2602777.pdf?src-supplier=Farnell; ComponentLink1Description: http://www.farnell.com/datasheets/2602777.pdf?src-supplier=Farnell; ComponentLink3URL: http://www.farnell.com/datasheets/2602777.pdf?src-supplier=Newark; ComponentLink3Description: http://www.farnell.com/datasheets/2602777.pdf?src-supplier=Newark; ComponentLink4URL: http://www.farnell.com/datasheets/2602777.pdf?src-supplier=Element14; ComponentLink4Description: http://www.farnell.com/datasheets/2602777.pdf?src-supplier=Element14; ComponentLink5URL: http://www.st.com/content/ccc/resource/technical/document/datasheet/group3/01/21/00/39/12/c9/4c/f1/DM00388325/files/DM00388325.pdf/jcr:content/translations/en.DM00388325.pdf?src-supplier=Digi-Key; ComponentLink5Description: http://www.st.com/content/ccc/resource/technical/document/datasheet/group3/01/21/00/39/12/c9/4c/f1/DM00388325/files/DM00388325.pdf/jcr:content/translations/en.DM00388325.pdf?src-supplier=Digi-Key; Supplier 1: Digi-Key; Manufacturer Part Number: STM32H753ZIT6; RoHS: Yes; Category: Microcontrollers; Pricing 1: 1=18.38000, 10=16.88900, 25=16.18840, 120=14.58417 (USD); RoHS Compliant: Yes
footprint FP-LQFP144-1A-MFG
footprint FP-LQFP144-1A-IPC_C
footprint FP-LQFP144-1A-IPC_B
footprint FP-LQFP144-1A-IPC_A
part A pins: 1 PE2 (io), 2 PE3 (io), 3 PE4 (io), 4 PE5 (io), 5 PE6 (io), 10 PF0 (io), 11 PF1 (io), 12 PF2 (io), 13 PF3 (io), 14 PF4 (io), 15 PF5 (io), 18 PF6 (io), 19 PF7 (io), 20 PF8 (io), 21 PF9 (io), 22 PF10 (io), 23 PH0-OSC IN (io), 24 PH1-OSC OUT (io), 49 PF11 (io), 50 PF12 (io), 53 PF13 (io), 54 PF14 (io), 55 PF15 (io), 56 PG0 (io), 57 PG1 (io), 58 PE7 (io), 59 PE8 (io), 60 PE9 (io), 63 PE10 (io), 64 PE11 (io), 65 PE12 (io), 66 PE13 (io), 67 PE14 (io), 68 PE15 (io), 77 PD8 (io), 78 PD9 (io), 79 PD10 (io), 80 PD11 (io), 81 PD12 (io), 82 PD13 (io), 85 PD14 (io), 86 PD15 (io), 87 PG2 (io), 88 PG3 (io), 89 PG4 (io), 90 PG5 (io), 91 PG6 (io), 92 PG7 (io), 93 PG8 (io), 114 PD0 (io), 115 PD1 (io), 116 PD2 (io), 117 PD3 (io), 118 PD4 (io), 119 PD5 (io), 122 PD6 (io), 123 PD7 (io), 124 PG9 (io), 125 PG10 (io), 126 PG11 (io), 127 PG12 (io), 128 PG13 (io), 129 PG14 (io), 132 PG15 (io), 141 PE0 (io), 142 PE1 (io)
part B pins: 6 VBAT (power), 16 VSS (power), 17 VDD (power), 30 VDD (power), 31 VSSA (power), 32 VREF+ (power), 33 VDDA (power), 38 VSS (power), 39 VDD (power), 51 VSS (power), 52 VDD (power), 61 VSS (power), 62 VDD (power), 71 VCAP (power), 72 VDD (power), 83 VSS (power), 84 VDD (power), 94 VSS (power), 95 VDD33USB (power), 106 VCAP (power), 107 VSS (power), 108 VDD (power), 120 VSS (power), 121 VDD (power), 130 VSS (power), 131 VDD (power), 144 VDD (power)
part C pins: 7 PC13 (io), 8 PC14-OSC32 IN (io), 9 PC15-OSC32 OUT (io), 25 ~{RST} (in), 26 PC0 (io), 27 PC1 (io), 28 PC2 C (io), 29 PC3 C (io), 34 PA0 (io), 35 PA1 (io), 36 PA2 (io), 37 PA3 (io), 40 PA4 (io), 41 PA5 (io), 42 PA6 (io), 43 PA7 (io), 44 PC4 (io), 45 PC5 (io), 46 PB0 (io), 47 PB1 (io), 48 PB2 (io), 69 PB10 (io), 70 PB11 (io), 73 PB12 (io), 74 PB13 (io), 75 PB14 (io), 76 PB15 (io), 96 PC6 (io), 97 PC7 (io), 98 PC8 (io), 99 PC9 (io), 100 PA8 (io), 101 PA9 (io), 102 PA10 (io), 103 PA11 (io), 104 PA12 (io), 105 PA13 (io), 109 PA14 (io), 110 PA15 (io), 111 PC10 (io), 112 PC11 (io), 113 PC12 (io), 133 PB3 (io), 134 PB4 (io), 135 PB5 (io), 136 PB6 (io), 137 PB7 (io), 138 BOOT0 (in), 139 PB8 (io), 140 PB9 (io), 143 PDR ON (in)

## CMP-13271-001266-1
designator C?, comment 10n
Cap Ceramic 10nF 50V X7R ±10% Pad SMD 0603 +125°C T/R; Manufacturer: Samsung; Manufacturer Part Number: CL10B103KB8NFNC; Height: 0.8mm; Case Code (Metric): 1608; Capacitance: 10nF; Width: 0.031inch; Voltage Rating: 50V; Dielectric: X7R; Case Code (Imperial): 0603; Mount: Surface Mount; Thickness: 0.035inch; Max Operating Temperature: 125°C; Min Operating Temperature: -55°C; Case/Package: 0603; Length: 0.063inch; Tolerance: 10%; Depth: 0.8mm; Radiation Hardening: No; Packaging: Tape and Reel; Contact Plating: Tin
footprint FP-CL10-IPC_C
footprint FP-CL10-IPC_B
footprint FP-CL10-IPC_A
pins: 1, 2

## CMP-13271-001266-1_1
designator C?, comment 10n
Cap Ceramic 10nF 50V X7R ±10% Pad SMD 0603 +125°C T/R; Manufacturer: Samsung; Manufacturer Part Number: CL10B103KB8NFNC; Height: 0.8mm; Case Code (Metric): 1608; Capacitance: 10nF; Width: 0.031inch; Voltage Rating: 50V; Dielectric: X7R; Case Code (Imperial): 0603; Mount: Surface Mount; Thickness: 0.035inch; Max Operating Temperature: 125°C; Min Operating Temperature: -55°C; Case/Package: 0603; Length: 0.063inch; Tolerance: 10%; Depth: 0.8mm; Radiation Hardening: No; Packaging: Tape and Reel; Contact Plating: Tin
footprint FP-CL10-IPC_C
footprint FP-CL10-IPC_B
footprint FP-CL10-IPC_A
pins: 1, 2

## CMP-13271-003053-1
designator C?, comment CL10A226MQ8NUNE  Capacitance: 22uF
Cap Ceramic 22uF 6.3V X5R ±20% Pad SMD 0603 +85°C T/R; Max Operating Temperature: 85°C; Case Code (Imperial): 0603; Packaging: Tape and Reel; Min Operating Temperature: -55°C; Voltage Rating: 6.3V; Case Code (Metric): 1608; Length: 0.063inch; Thickness: 0.041inch; Tolerance: 20%; Width: 0.031inch; Mount: Surface Mount; Case/Package: 0603
footprint FP-CL10-IPC_A
footprint FP-CL10-IPC_B
footprint FP-CL10-IPC_C
pins: 1, 2

## CMP-14406-000007-1
designator Q?, comment BC817-40,215
TRANS NPN 45V 0.5A SOT23; Manufacturer: Nexperia; Collector Emitter Saturation Voltage: 700mV; Power Dissipation: 250mW; Collector Base Voltage: 50V; Unity Gain Freq: 100MHz; Hfe Max: 600; Rthja Max: 500K/W; Emitter Base Voltage: 5V; Max Collector Current: 500mA; Hfe Testvce: 1V; Automotive Grade: Grade 0; Hfe Min: 250; Max Junction Temp: +150°C; Number Of Npn: 1; Hfe Testic: 100mA; Octopart: https://octopart.com/bc817-40%2C215-nexperia-78739081; Lead Free: Yes; Ipc Land Pattern Name: SOT95P230X100-3; Manufacturer Part Number: BC817-40,215; RoHS: TRUE; Collector Emitter Breakdown Voltage: 45V; Digikey Description: TRANS NPN 45V 0.5A SOT23; ComponentLink2URL: https://assets.nexperia.com/documents/data-sheet/BC817_SER.pdf; Temperature Range High: +150°C; Mouser Description: BC817 Series 45 V 500 mA 250 mW SMT NPN General-Purpose Transistor - SOT-23-; Device Class L3: BJTs; Temperature: to +150°C; Height: 1.1mm; Automotive: Yes; Ambient Temperature Range Low: -65°C; Package: SOT23; Collector Emitter Voltage: 45V; Category: Trans; ComponentLink2Description: Datasheet; Device Class L2: Transistors; Ambient Temperature Range High: +150°C; Number Of Elements: 1; Device Class L1: Discrete Semiconductors; Footprint Url: https://assets.nexperia.com/documents/outline-drawing/SOT23.pdf
footprint FP-SOT23-MFG
footprint FP-SOT23-IPC_C
footprint FP-SOT23-IPC_B
footprint FP-SOT23-IPC_A
pins: 1 B, 2 E, 3 C

## CMP-14406-000007-1_1
designator Q?, comment BC817-40,215
TRANS NPN 45V 0.5A SOT23; Manufacturer: Nexperia; Collector Emitter Saturation Voltage: 700mV; Power Dissipation: 250mW; Collector Base Voltage: 50V; Unity Gain Freq: 100MHz; Hfe Max: 600; Rthja Max: 500K/W; Emitter Base Voltage: 5V; Max Collector Current: 500mA; Hfe Testvce: 1V; Automotive Grade: Grade 0; Hfe Min: 250; Max Junction Temp: +150°C; Number Of Npn: 1; Hfe Testic: 100mA; Octopart: https://octopart.com/bc817-40%2C215-nexperia-78739081; Lead Free: Yes; Ipc Land Pattern Name: SOT95P230X100-3; Manufacturer Part Number: BC817-40,215; RoHS: TRUE; Collector Emitter Breakdown Voltage: 45V; Digikey Description: TRANS NPN 45V 0.5A SOT23; ComponentLink2URL: https://assets.nexperia.com/documents/data-sheet/BC817_SER.pdf; Temperature Range High: +150°C; Mouser Description: BC817 Series 45 V 500 mA 250 mW SMT NPN General-Purpose Transistor - SOT-23-; Device Class L3: BJTs; Temperature: to +150°C; Height: 1.1mm; Automotive: Yes; Ambient Temperature Range Low: -65°C; Package: SOT23; Collector Emitter Voltage: 45V; Category: Trans; ComponentLink2Description: Datasheet; Device Class L2: Transistors; Ambient Temperature Range High: +150°C; Number Of Elements: 1; Device Class L1: Discrete Semiconductors; Footprint Url: https://assets.nexperia.com/documents/outline-drawing/SOT23.pdf
footprint FP-SOT23-MFG
footprint FP-SOT23-IPC_C
footprint FP-SOT23-IPC_B
footprint FP-SOT23-IPC_A
pins: 1 B, 2 E, 3 C

## CMP-27762-000021-1
designator Y?, comment ABM8G-25.000MHz-B4Y-T
ABRACON - ABM8G-25.000MHZ-B4Y-T - CRYSTAL, 25MHZ, 10PF, 3.2 X 2.5MM; Frequency Stability: 30ppm; ESR (Equivalent Series Resistance): 60R; Supplier 1: Digi-Key; Supplier Part Number 1: 535-10297-1-ND; Manufacturer: Abracon; Manufacturer Part Number: ABM8G-25.000MHZ-B4Y-T; RoHS: Yes; Category: Crystals; Stock 1: 1081; Pricing 1: 1=0,82000, 10=0,72900, 50=0,68120, 100=0,60190, 500=0,57024 (USD); Mount: Surface Mount; Case/Package: SMD/SMT; Number of Pins: 4; Min Operating Temperature: -20°C; Max Operating Temperature: 70°C; Termination: SMD/SMT; Packaging: Tape and Reel; Frequency Tolerance: 30ppm; Load Capacitance: 10pF; Frequency: 25MHz; Package Quantity: 1000; Tolerance: 30ppm; Series Resistance: 60R; Length: 3.2mm; Width: 0.098inch; Height: 0.039inch; Depth: 2.5mm; REACH SVHC: Unknown; Lead Free: Lead Free; ComponentLink1URL: https://datasheet.ciiva.com/7998/abm8g-7998635.pdf?src-supplier=Element14; ComponentLink1Description: https://datasheet.ciiva.com/7998/abm8g-7998635.pdf?src-supplier=Element14; ComponentLink2URL: https://datasheet.ciiva.com/855/abm8g-855228.pdf?src-supplier=Digi-Key; ComponentLink2Description: https://datasheet.ciiva.com/855/abm8g-855228.pdf?src-supplier=Digi-Key; ComponentLink3URL: https://datasheet.ciiva.com/16416/abm8g-16416874.pdf?src-supplier=Future+Electronics; ComponentLink3Description: https://datasheet.ciiva.com/16416/abm8g-16416874.pdf?src-supplier=Future+Electronics; ComponentLink4URL: https://datasheet.ciiva.com/28508/1883677-28508586.pdf?src-supplier=Element14; ComponentLink4Description: https://datasheet.ciiva.com/28508/1883677-28508586.pdf?src-supplier=Element14; ComponentLink5URL: https://datasheet.ciiva.com/855/abm8g-855229.pdf?src-supplier=Digi-Key; ComponentLink5Description: https://datasheet.ciiva.com/855/abm8g-855229.pdf?src-supplier=Digi-Key; ComponentLink6URL: https://datasheet.ciiva.com/855/abm8g-855230.pdf?src-supplier=Digi-Key; ComponentLink6Description: https://datasheet.ciiva.com/855/abm8g-855230.pdf?src-supplier=Digi-Key; ComponentLink7URL: https://datasheet.ciiva.com/4945/abm8g-10572-4945134.pdf?src-supplier=Mouser; ComponentLink7Description: https://datasheet.ciiva.com/4945/abm8g-10572-4945134.pdf?src-supplier=Mouser
footprint FP-ABM8G-MFG
pins: 1, 2 GND (power), 3, 4 GND (power)

## CMP-27762-000021-1_1
designator Y?, comment ABM8G-25.000MHz-B4Y-T
ABRACON - ABM8G-25.000MHZ-B4Y-T - CRYSTAL, 25MHZ, 10PF, 3.2 X 2.5MM; Frequency Stability: 30ppm; ESR (Equivalent Series Resistance): 60R; Supplier 1: Digi-Key; Supplier Part Number 1: 535-10297-1-ND; Manufacturer: Abracon; Manufacturer Part Number: ABM8G-25.000MHZ-B4Y-T; RoHS: Yes; Category: Crystals; Stock 1: 1081; Pricing 1: 1=0,82000, 10=0,72900, 50=0,68120, 100=0,60190, 500=0,57024 (USD); Mount: Surface Mount; Case/Package: SMD/SMT; Number of Pins: 4; Min Operating Temperature: -20°C; Max Operating Temperature: 70°C; Termination: SMD/SMT; Packaging: Tape and Reel; Frequency Tolerance: 30ppm; Load Capacitance: 10pF; Frequency: 25MHz; Package Quantity: 1000; Tolerance: 30ppm; Series Resistance: 60R; Length: 3.2mm; Width: 0.098inch; Height: 0.039inch; Depth: 2.5mm; REACH SVHC: Unknown; Lead Free: Lead Free; ComponentLink1URL: https://datasheet.ciiva.com/7998/abm8g-7998635.pdf?src-supplier=Element14; ComponentLink1Description: https://datasheet.ciiva.com/7998/abm8g-7998635.pdf?src-supplier=Element14; ComponentLink2URL: https://datasheet.ciiva.com/855/abm8g-855228.pdf?src-supplier=Digi-Key; ComponentLink2Description: https://datasheet.ciiva.com/855/abm8g-855228.pdf?src-supplier=Digi-Key; ComponentLink3URL: https://datasheet.ciiva.com/16416/abm8g-16416874.pdf?src-supplier=Future+Electronics; ComponentLink3Description: https://datasheet.ciiva.com/16416/abm8g-16416874.pdf?src-supplier=Future+Electronics; ComponentLink4URL: https://datasheet.ciiva.com/28508/1883677-28508586.pdf?src-supplier=Element14; ComponentLink4Description: https://datasheet.ciiva.com/28508/1883677-28508586.pdf?src-supplier=Element14; ComponentLink5URL: https://datasheet.ciiva.com/855/abm8g-855229.pdf?src-supplier=Digi-Key; ComponentLink5Description: https://datasheet.ciiva.com/855/abm8g-855229.pdf?src-supplier=Digi-Key; ComponentLink6URL: https://datasheet.ciiva.com/855/abm8g-855230.pdf?src-supplier=Digi-Key; ComponentLink6Description: https://datasheet.ciiva.com/855/abm8g-855230.pdf?src-supplier=Digi-Key; ComponentLink7URL: https://datasheet.ciiva.com/4945/abm8g-10572-4945134.pdf?src-supplier=Mouser; ComponentLink7Description: https://datasheet.ciiva.com/4945/abm8g-10572-4945134.pdf?src-supplier=Mouser
footprint FP-ABM8G-MFG
pins: 1, 2 GND (power), 3, 4 GND (power)

## CMP-27762-000021-1_2
designator Y?, comment ABM8G-25.000MHz-B4Y-T
ABRACON - ABM8G-25.000MHZ-B4Y-T - CRYSTAL, 25MHZ, 10PF, 3.2 X 2.5MM; Frequency Stability: 30ppm; ESR (Equivalent Series Resistance): 60R; Supplier 1: Digi-Key; Supplier Part Number 1: 535-10297-1-ND; Manufacturer: Abracon; Manufacturer Part Number: ABM8G-25.000MHZ-B4Y-T; RoHS: Yes; Category: Crystals; Stock 1: 1081; Pricing 1: 1=0,82000, 10=0,72900, 50=0,68120, 100=0,60190, 500=0,57024 (USD); Mount: Surface Mount; Case/Package: SMD/SMT; Number of Pins: 4; Min Operating Temperature: -20°C; Max Operating Temperature: 70°C; Termination: SMD/SMT; Packaging: Tape and Reel; Frequency Tolerance: 30ppm; Load Capacitance: 10pF; Frequency: 25MHz; Package Quantity: 1000; Tolerance: 30ppm; Series Resistance: 60R; Length: 3.2mm; Width: 0.098inch; Height: 0.039inch; Depth: 2.5mm; REACH SVHC: Unknown; Lead Free: Lead Free; ComponentLink1URL: https://datasheet.ciiva.com/7998/abm8g-7998635.pdf?src-supplier=Element14; ComponentLink1Description: https://datasheet.ciiva.com/7998/abm8g-7998635.pdf?src-supplier=Element14; ComponentLink2URL: https://datasheet.ciiva.com/855/abm8g-855228.pdf?src-supplier=Digi-Key; ComponentLink2Description: https://datasheet.ciiva.com/855/abm8g-855228.pdf?src-supplier=Digi-Key; ComponentLink3URL: https://datasheet.ciiva.com/16416/abm8g-16416874.pdf?src-supplier=Future+Electronics; ComponentLink3Description: https://datasheet.ciiva.com/16416/abm8g-16416874.pdf?src-supplier=Future+Electronics; ComponentLink4URL: https://datasheet.ciiva.com/28508/1883677-28508586.pdf?src-supplier=Element14; ComponentLink4Description: https://datasheet.ciiva.com/28508/1883677-28508586.pdf?src-supplier=Element14; ComponentLink5URL: https://datasheet.ciiva.com/855/abm8g-855229.pdf?src-supplier=Digi-Key; ComponentLink5Description: https://datasheet.ciiva.com/855/abm8g-855229.pdf?src-supplier=Digi-Key; ComponentLink6URL: https://datasheet.ciiva.com/855/abm8g-855230.pdf?src-supplier=Digi-Key; ComponentLink6Description: https://datasheet.ciiva.com/855/abm8g-855230.pdf?src-supplier=Digi-Key; ComponentLink7URL: https://datasheet.ciiva.com/4945/abm8g-10572-4945134.pdf?src-supplier=Mouser; ComponentLink7Description: https://datasheet.ciiva.com/4945/abm8g-10572-4945134.pdf?src-supplier=Mouser
footprint FP-ABM8G-MFG
pins: 1, 2 GND (power), 3, 4 GND (power)

## CMP-27762-000021-1_3
designator Y?, comment ABM8G-25.000MHz-B4Y-T
ABRACON - ABM8G-25.000MHZ-B4Y-T - CRYSTAL, 25MHZ, 10PF, 3.2 X 2.5MM; Frequency Stability: 30ppm; ESR (Equivalent Series Resistance): 60R; Supplier 1: Digi-Key; Supplier Part Number 1: 535-10297-1-ND; Manufacturer: Abracon; Manufacturer Part Number: ABM8G-25.000MHZ-B4Y-T; RoHS: Yes; Category: Crystals; Stock 1: 1081; Pricing 1: 1=0,82000, 10=0,72900, 50=0,68120, 100=0,60190, 500=0,57024 (USD); Mount: Surface Mount; Case/Package: SMD/SMT; Number of Pins: 4; Min Operating Temperature: -20°C; Max Operating Temperature: 70°C; Termination: SMD/SMT; Packaging: Tape and Reel; Frequency Tolerance: 30ppm; Load Capacitance: 10pF; Frequency: 25MHz; Package Quantity: 1000; Tolerance: 30ppm; Series Resistance: 60R; Length: 3.2mm; Width: 0.098inch; Height: 0.039inch; Depth: 2.5mm; REACH SVHC: Unknown; Lead Free: Lead Free; ComponentLink1URL: https://datasheet.ciiva.com/7998/abm8g-7998635.pdf?src-supplier=Element14; ComponentLink1Description: https://datasheet.ciiva.com/7998/abm8g-7998635.pdf?src-supplier=Element14; ComponentLink2URL: https://datasheet.ciiva.com/855/abm8g-855228.pdf?src-supplier=Digi-Key; ComponentLink2Description: https://datasheet.ciiva.com/855/abm8g-855228.pdf?src-supplier=Digi-Key; ComponentLink3URL: https://datasheet.ciiva.com/16416/abm8g-16416874.pdf?src-supplier=Future+Electronics; ComponentLink3Description: https://datasheet.ciiva.com/16416/abm8g-16416874.pdf?src-supplier=Future+Electronics; ComponentLink4URL: https://datasheet.ciiva.com/28508/1883677-28508586.pdf?src-supplier=Element14; ComponentLink4Description: https://datasheet.ciiva.com/28508/1883677-28508586.pdf?src-supplier=Element14; ComponentLink5URL: https://datasheet.ciiva.com/855/abm8g-855229.pdf?src-supplier=Digi-Key; ComponentLink5Description: https://datasheet.ciiva.com/855/abm8g-855229.pdf?src-supplier=Digi-Key; ComponentLink6URL: https://datasheet.ciiva.com/855/abm8g-855230.pdf?src-supplier=Digi-Key; ComponentLink6Description: https://datasheet.ciiva.com/855/abm8g-855230.pdf?src-supplier=Digi-Key; ComponentLink7URL: https://datasheet.ciiva.com/4945/abm8g-10572-4945134.pdf?src-supplier=Mouser; ComponentLink7Description: https://datasheet.ciiva.com/4945/abm8g-10572-4945134.pdf?src-supplier=Mouser
footprint FP-ABM8G-MFG
pins: 1, 2 GND (power), 3, 4 GND (power)

## CMP-27762-000021-1_4
designator Y?, comment ABM8G-25.000MHz-B4Y-T
ABRACON - ABM8G-25.000MHZ-B4Y-T - CRYSTAL, 25MHZ, 10PF, 3.2 X 2.5MM; Frequency Stability: 30ppm; ESR (Equivalent Series Resistance): 60R; Supplier 1: Digi-Key; Supplier Part Number 1: 535-10297-1-ND; Manufacturer: Abracon; Manufacturer Part Number: ABM8G-25.000MHZ-B4Y-T; RoHS: Yes; Category: Crystals; Stock 1: 1081; Pricing 1: 1=0,82000, 10=0,72900, 50=0,68120, 100=0,60190, 500=0,57024 (USD); Mount: Surface Mount; Case/Package: SMD/SMT; Number of Pins: 4; Min Operating Temperature: -20°C; Max Operating Temperature: 70°C; Termination: SMD/SMT; Packaging: Tape and Reel; Frequency Tolerance: 30ppm; Load Capacitance: 10pF; Frequency: 25MHz; Package Quantity: 1000; Tolerance: 30ppm; Series Resistance: 60R; Length: 3.2mm; Width: 0.098inch; Height: 0.039inch; Depth: 2.5mm; REACH SVHC: Unknown; Lead Free: Lead Free; ComponentLink1URL: https://datasheet.ciiva.com/7998/abm8g-7998635.pdf?src-supplier=Element14; ComponentLink1Description: https://datasheet.ciiva.com/7998/abm8g-7998635.pdf?src-supplier=Element14; ComponentLink2URL: https://datasheet.ciiva.com/855/abm8g-855228.pdf?src-supplier=Digi-Key; ComponentLink2Description: https://datasheet.ciiva.com/855/abm8g-855228.pdf?src-supplier=Digi-Key; ComponentLink3URL: https://datasheet.ciiva.com/16416/abm8g-16416874.pdf?src-supplier=Future+Electronics; ComponentLink3Description: https://datasheet.ciiva.com/16416/abm8g-16416874.pdf?src-supplier=Future+Electronics; ComponentLink4URL: https://datasheet.ciiva.com/28508/1883677-28508586.pdf?src-supplier=Element14; ComponentLink4Description: https://datasheet.ciiva.com/28508/1883677-28508586.pdf?src-supplier=Element14; ComponentLink5URL: https://datasheet.ciiva.com/855/abm8g-855229.pdf?src-supplier=Digi-Key; ComponentLink5Description: https://datasheet.ciiva.com/855/abm8g-855229.pdf?src-supplier=Digi-Key; ComponentLink6URL: https://datasheet.ciiva.com/855/abm8g-855230.pdf?src-supplier=Digi-Key; ComponentLink6Description: https://datasheet.ciiva.com/855/abm8g-855230.pdf?src-supplier=Digi-Key; ComponentLink7URL: https://datasheet.ciiva.com/4945/abm8g-10572-4945134.pdf?src-supplier=Mouser; ComponentLink7Description: https://datasheet.ciiva.com/4945/abm8g-10572-4945134.pdf?src-supplier=Mouser
footprint FP-ABM8G-MFG
pins: 1, 2 GND (power), 3, 4 GND (power)

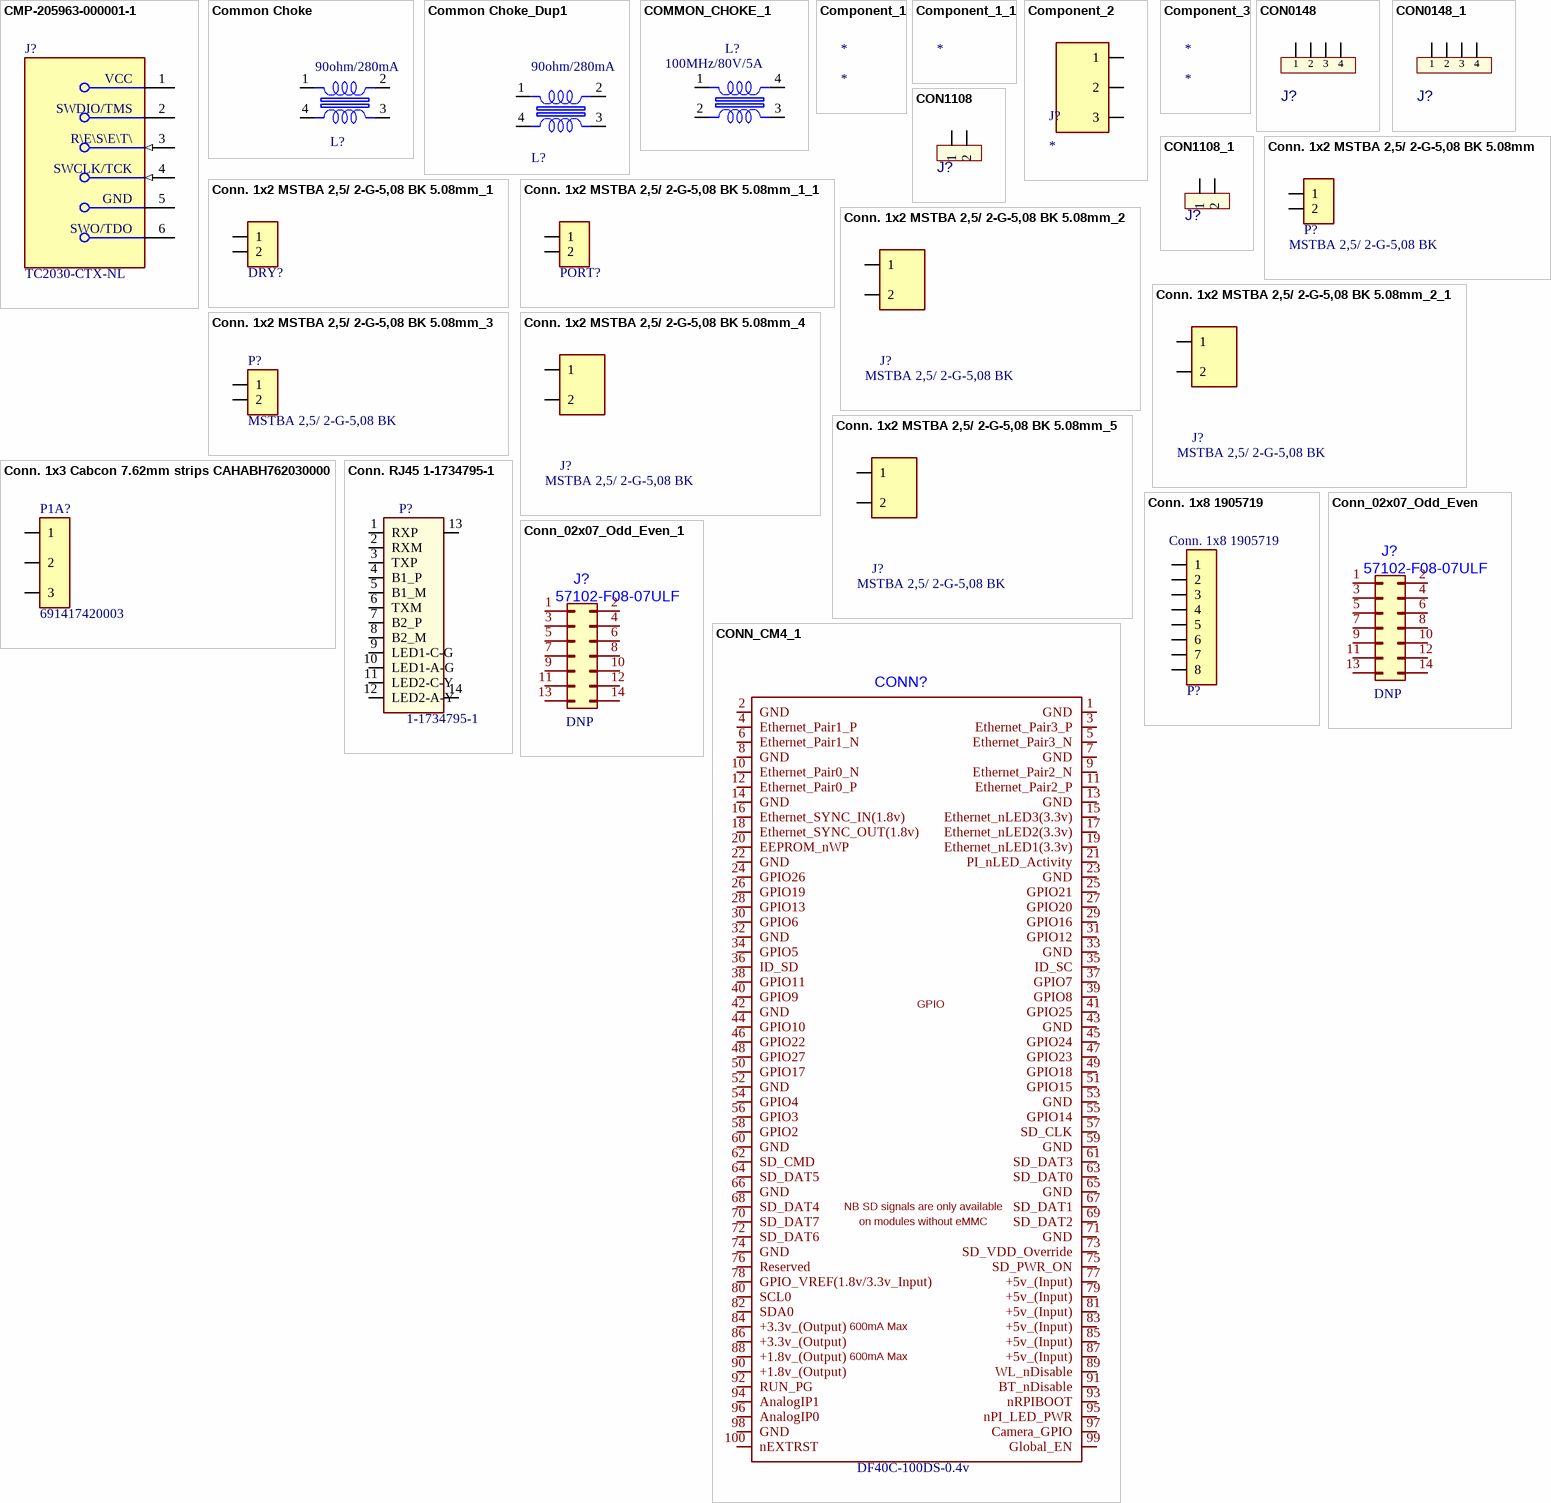
[diagram p17: symbols CMP-205963-000001-1 to CONN_CM4_1]

## CMP-205963-000001-1
designator J?, comment TC2030-CTX-NL
6-Pin “No legs” TC2030 Plug-of-Nails™ Cable for use with ARM Cortex processors
footprint FP-TC2030-CTX-NL-MFG
pins: 1 VCC (power), 2 SWDIO/TMS, 3 ~{RESET} (in), 4 SWCLK/TCK (in), 5 GND (power), 6 SWO/TDO

## Common Choke
designator L?, comment 90ohm/280mA
Inductor,Common Choke,90ohm@100MHz,¡À25%,280mA,0.4ohm,SMD 2*1.2*1.2mm,Sunlord; Manufacturer P/N: SDCW2012-2-900TF; PCB Footprint: indcm-sdcw2012; Myir P/N: 20504.00002; Reserve Value: 90ohm; Part Type: Common Inductor; Manufacturer: Sunlord; Datasheet: SDCW2012-2.pdf
footprint MURATA_DLW21S
footprint indcm-sdcw2012
pins: 1, 2, 3, 4

## Common Choke_Dup1
designator L?, comment 90ohm/280mA
Inductor,Common Choke,90ohm@100MHz,¡À25%,280mA,0.4ohm,SMD 2*1.2*1.2mm,Sunlord; Manufacturer P/N: SDCW2012-2-900TF; Reserve Value: 90ohm; Myir P/N: 20504.00002; PCB Footprint: indcm-sdcw2012; Datasheet: SDCW2012-2.pdf; Manufacturer: Sunlord; Part Type: Common Inductor
footprint MURATA_DLW21S
footprint indcm-sdcw2012
pins: 1, 2, 3, 4

## COMMON_CHOKE_1
designator L?, comment 100MHz/80V/5A
Filters,2 Function(s), 80V, 5A,-40~85¡æ,L7.0XB6.0XH3.5,TDK; Manufacturer P/N: ACM7060-301-2PL-TL01; Reserve Value: 100MHz; Myir P/N: 20504.00009; PCB Footprint: indcm-acm7060; Datasheet: cmf_commercial_power_acm7060_zh.pdf; Manufacturer: TDK; Part Type: Common Inductor
footprint MURATA_DLW21S
footprint indcm-acm7060
pins: 1, 2, 3, 4

## Component_1
designator *

## Component_1_1
designator *  (value not drawn)

## Component_2
designator J?
pins: 1, 2, 3

## Component_3
designator *

## CON0148
designator J?, comment Header 1x4  (value not drawn)
CONN HEADER VERT 4POS 2.54MM; Manufacturer: Wurth Electronics Inc; Manufacturer Part Number: 61300411121; Value: HDR-2.54 Male 1x4; Revision: 1; Supplier Part Number: 732-5317-ND
footprint THD 1x4p. male straight
pins: 1, 2, 3, 4
3 alternate drawings of the same symbol

## CON0148_1
designator J?, comment Header 1x4  (value not drawn)
CONN HEADER VERT 4POS 2.54MM; Manufacturer: Wurth Electronics Inc; Manufacturer Part Number: 61300411121; Value: HDR-2.54 Male 1x4; Revision: 1; Supplier Part Number: 732-5317-ND
footprint THD 1x4p. male straight
pins: 1, 2, 3, 4
3 alternate drawings of the same symbol

## CON1108
designator J?, comment Header 1x2  (value not drawn)
CONN HEADER VERT 2POS 2.54MM; Manufacturer: FCI; Manufacturer Part Number: 77311-118-02LF; Value: HDR-2.54 Male 1x2; Revision: 1; Supplier Part Number: 609-4434-ND
footprint THD 1x2p. male straight
pins: 1, 2
8 alternate drawings of the same symbol

## CON1108_1
designator J?, comment Header 1x2  (value not drawn)
CONN HEADER VERT 2POS 2.54MM; Manufacturer: FCI; Manufacturer Part Number: 77311-118-02LF; Value: HDR-2.54 Male 1x2; Revision: 1; Supplier Part Number: 609-4434-ND
footprint THD 1x2p. male straight
pins: 1, 2
8 alternate drawings of the same symbol

## Conn. 1x2 MSTBA 2,5/ 2-G-5,08 BK 5.08mm
designator P?, comment MSTBA 2,5/ 2-G-5,08 BK
TERM BLOCK HDR 2POS 90DEG 5.08MM; Manufacturer: Phoenix Contact; Value: Terminal block; Manufacturer Part Number: MSTBA 2,5/ 2-G-5,08 BK; Supplier Part Number: 277-6765-ND
footprint 1X2P 5.08MM_MSTBA 2,5/ 2-G-5,08 BK (MSTBA 2,5/ 2-G-5,08 BK)
pins: 1, 2

## Conn. 1x2 MSTBA 2,5/ 2-G-5,08 BK 5.08mm_1
designator DRY?, comment 1890963  (value not drawn)
TERM BLK 2POS SIDE ENTRY 5MM PCB; Manufacturer: Phoenix Contact; Position: P?; Value: Terminal block; Manufacturer Part Number: 1890963; Supplier Part Number: 277-5953-ND
footprint 1X2P 5.0MM (MKDSN 2,5/ 2)
pins: 1, 2

## Conn. 1x2 MSTBA 2,5/ 2-G-5,08 BK 5.08mm_1_1
designator PORT?, comment 1803277  (value not drawn)
TERM BLOCK HDR 2POS 90DEG 3.81MM; Manufacturer: Phoenix; Position: P?; Value: Terminal block; Manufacturer Part Number: 1803277; Supplier Part Number: 277-1206-ND
footprint 1X2P 5.08MM_MSTBA 2,5/ 2-G-5,08 BK (MSTBA 2,5/ 2-G-5,08 BK)
pins: 1, 2

## Conn. 1x2 MSTBA 2,5/ 2-G-5,08 BK 5.08mm_2
designator J?, comment MSTBA 2,5/ 2-G-5,08 BK
TERM BLOCK HDR 2POS 90DEG 5.08MM; Manufacturer: Phoenix Contact; Value: Terminal block; Manufacturer Part Number: MSTBA 2,5/ 2-G-5,08 BK; Supplier Part Number: 277-6765-ND
footprint 1X2P 5.08MM_MSTBA 2,5/ 2-G-5,08 BK (MSTBA 2,5/ 2-G-5,08 BK)
pins: 1, 2

## Conn. 1x2 MSTBA 2,5/ 2-G-5,08 BK 5.08mm_2_1
designator J?, comment MSTBA 2,5/ 2-G-5,08 BK
TERM BLOCK HDR 2POS 90DEG 5.08MM; Manufacturer: Phoenix Contact; Value: Terminal block; Manufacturer Part Number: MSTBA 2,5/ 2-G-5,08 BK; Supplier Part Number: 277-6765-ND
footprint 1X2P 5.08MM_MSTBA 2,5/ 2-G-5,08 BK (MSTBA 2,5/ 2-G-5,08 BK)
pins: 1, 2

## Conn. 1x2 MSTBA 2,5/ 2-G-5,08 BK 5.08mm_3
designator P?, comment MSTBA 2,5/ 2-G-5,08 BK
TERM BLOCK HDR 2POS 90DEG 5.08MM; Manufacturer: Phoenix Contact; Value: Terminal block; Manufacturer Part Number: MSTBA 2,5/ 2-G-5,08 BK; Supplier Part Number: 277-6765-ND
footprint 1X2P 5.08MM_MSTBA 2,5/ 2-G-5,08 BK (MSTBA 2,5/ 2-G-5,08 BK)
pins: 1, 2

## Conn. 1x2 MSTBA 2,5/ 2-G-5,08 BK 5.08mm_4
designator J?, comment MSTBA 2,5/ 2-G-5,08 BK
TERM BLOCK HDR 2POS 90DEG 5.08MM; Manufacturer: Phoenix Contact; Value: Terminal block; Manufacturer Part Number: MSTBA 2,5/ 2-G-5,08 BK; Supplier Part Number: 277-6765-ND
footprint 1X2P 5.08MM_MSTBA 2,5/ 2-G-5,08 BK (MSTBA 2,5/ 2-G-5,08 BK)
pins: 1, 2

## Conn. 1x2 MSTBA 2,5/ 2-G-5,08 BK 5.08mm_5
designator J?, comment MSTBA 2,5/ 2-G-5,08 BK
TERM BLOCK HDR 2POS 90DEG 5.08MM; Manufacturer: Phoenix Contact; Value: Terminal block; Manufacturer Part Number: MSTBA 2,5/ 2-G-5,08 BK; Supplier Part Number: 277-6765-ND
footprint 1X2P 5.08MM_MSTBA 2,5/ 2-G-5,08 BK (MSTBA 2,5/ 2-G-5,08 BK)
pins: 1, 2

## Conn. 1x3 Cabcon 7.62mm strips CAHABH762030000
designator P1A?, comment 691417420003
7.62 MM TERMINAL BLOCK, 45 ENTR; Manufacturer: Würth Elektronik; Manufacturer Part Number: 691417420003; Supplier Part Number: 732-691417420003-ND; Value: 691417420003
footprint 1x3p 7.62mm (CAHABH762030000)
pins: 1, 2, 3

## Conn. 1x8 1905719
designator P?
TERM BLK 8POS SIDE ENTRY 5MM PCB; Manufacturer: Phoenix Contact; Value: 1905719; Manufacturer Part Number: 1905719; Supplier Part Number: 1905719-ND
footprint 1X8P 5.0MM (MKDSN 2,5/ 8)
pins: 1, 2, 3, 4, 5, 6, 7, 8

## Conn. RJ45 1-1734795-1
designator P?, comment 1-1734795-1
RJ45 conn.  G-Y LED; Manufacturer: TE Connectivity AMP Connectors; Value: 1-1734795-1; Manufacturer Part Number: 1-1734795-1; Supplier Part Number: A144171-ND
footprint 16.2x15.0x11.3mm
pins: 1 RXP, 2 RXM, 3 TXP, 4 B1_P, 5 B1_M, 6 TXM, 7 B2_P, 8 B2_M, 9 LED1-C-G, 10 LED1-A-G, 11 LED2-C-Y, 12 LED2-A-Y, 13 CH-1, 14 CH-2

## Conn_02x07_Odd_Even
designator J?, comment 57102-F08-07ULF
CONN HEADER VERT 14POS 2MM; Manufacturer: Amphenol ICC (FCI); Value: 57102-F08-07ULF; Manufacturer Part Number: 57102-F08-07ULF; DNP: DNP; Supplier Part Number: 609-5091-ND
footprint CONN_2MM_57102-F08-07ULF (Footprint not found)
pins: 1 Pin_1, 2 Pin_2, 3 Pin_3, 4 Pin_4, 5 Pin_5, 6 Pin_6, 7 Pin_7, 8 Pin_8, 9 Pin_9, 10 Pin_10, 11 Pin_11, 12 Pin_12, 13 Pin_13, 14 Pin_14